# Altium schematic symbol library interface_Schlib.SchLib: 30 symbols
Pins are listed as number, name and electrical type; pins without a type are passive.

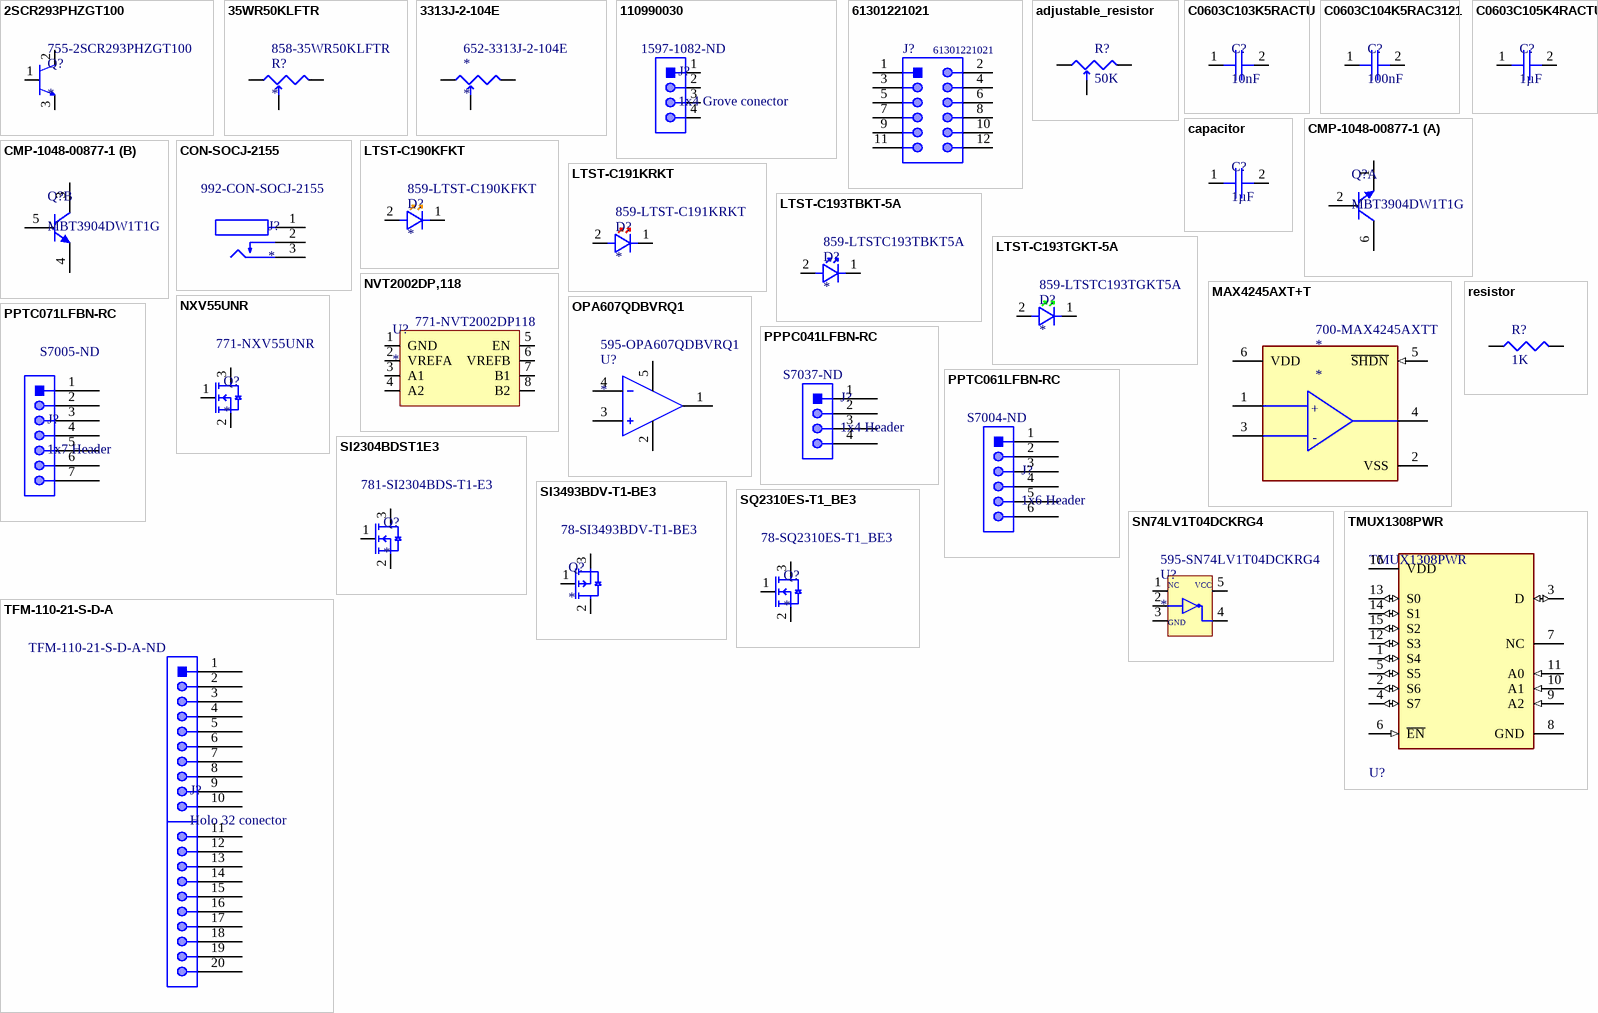
[diagram p0: symbols 2SCR293PHZGT100 to TMUX1308PWR]

## 2SCR293PHZGT100
designator Q?  Supplier Part Number 1: 755-2SCR293PHZGT100
NPN, SOT-89, 30V 1A, Middle Power Transistor for Automotive; Manufacturer: Rohm; Manufacturer Part Number: 2SCR293PHZGT100; Supplier 1: Mouser; RoHS: No; Category: Uncategorized; Stock 1: 3866; Pricing 1: 1=0,68000, 10=0,59500, 50=0,59500, 100=0,45600, 1000=0,28800, 10000=0,23800 (USD)
pins: 1, 2, 3

## 35WR50KLFTR
designator R?  Supplier Part Number 1: 858-35WR50KLFTR
35W Series 3 mm Open Frame 50 kOhm ±25 % Single-Turn Trimming Potentiometer; Manufacturer: TT BI; Manufacturer Part Number: 35WR50KLFTR; Tolerance: 25%; Power Rating: 100mW; Resistance: 50kR; Voltage Rating: 50V; Number of Turns: 1; Insulation Resistance: 100MR; Temperature Coefficient: 250ppm/°C; Supplier 1: Mouser; RoHS: Yes; Category: Variable Resistors and Potentiometers; Stock 1: 1799; Pricing 1: 1=0,46000, 10=0,42200, 50=0,42200, 100=0,33800, 1000=0,26000, 10000=0,20200 (USD); Min Operating Temperature: -40°C; Max Operating Temperature: 125°C; Packaging: Tape and Reel; Package Quantity: 2000; Resistor Type: Cermet; Termination: SMD/SMT; Voltage Rating (DC): 50V; Type: Potentiometer; Width: 1.55mm; REACH SVHC: No SVHC; Lead Free: Lead Free; RoHS Compliant: Yes; ComponentLink1URL: https://datasheet.ciiva.com/8020/4701-8020823.pdf?src-supplier=Element14; ComponentLink1Description: https://datasheet.ciiva.com/8020/4701-8020823.pdf?src-supplier=Element14; ComponentLink2URL: https://datasheet.ciiva.com/7634/4701-7634925.pdf?src-supplier=Element14; ComponentLink2Description: https://datasheet.ciiva.com/7634/4701-7634925.pdf?src-supplier=Element14; ComponentLink3URL: https://datasheet.ciiva.com/12374/35-2231-12374697.pdf?src-supplier=Mouser; ComponentLink3Description: https://datasheet.ciiva.com/12374/35-2231-12374697.pdf?src-supplier=Mouser
footprint FP-35WR50KLFTR
pins: 1, 2, 3

## 3313J-2-104E
designator *  Supplier Part Number 1: 652-3313J-2-104E
Res Cermet Trimmer 100K Ohm 20% 1/8W 1(Elec)/1(Mech)Turn 1.93mm (3.2 X 3.5 X 2.2mm) J-Hook SMD Embossed T/R; Manufacturer: Bourns; Manufacturer Part Number: 3313J-2-104E; Resistance: 100kR; Power Rating: 100mW; Max Power Dissipation: 125mW; Temperature Coefficient: 100ppm/°C; Supplier 1: Mouser; RoHS: Yes; Category: Variable Resistors and Potentiometers; Stock 1: 164; Pricing 1: 1=1,83000, 10=1,62000, 50=1,62000, 100=1,34000, 1000=0,96100, 10000=0,96100 (USD); Mount: Surface Mount; Min Operating Temperature: -55°C; Max Operating Temperature: 125°C; Resistor Type: Cermet; Packaging: Tape and Reel; Package Quantity: 1000; Tolerance: 20%; Termination: SMD/SMT; Series: Trimpot® 3313 - Sealed; Technology: CERMET; Length: 3.2mm; Height: 0.087inch; Depth: 3.5mm; Military Standard: Not; RoHS Compliant: Yes; ComponentLink1URL: https://datasheet.ciiva.com/8700/3313-8700487.pdf?src-supplier=Avnet; ComponentLink1Description: https://datasheet.ciiva.com/8700/3313-8700487.pdf?src-supplier=Avnet; ComponentLink2URL: https://datasheet.ciiva.com/2161/3313-2161114.pdf?src-supplier=Digi-Key; ComponentLink2Description: https://datasheet.ciiva.com/2161/3313-2161114.pdf?src-supplier=Digi-Key
footprint FP-3313J-2-104E
pins: 1, 2, 3

## 110990030
designator J?, comment 1x4 Grove conector  Supplier Part Number 1: 1597-1082-ND
Grove - Universal 4 pin connector [Seeed Studio] 110990030 Grove - Universal 4 pin connector; Supplier 1: Digi-Key; Manufacturer: Seeed Studio; Manufacturer Part Number: 110990030; RoHS: No; Category: Connectors; Stock 1: 3588; Pricing 1: 1=1,70000 (USD); ComponentLink1URL: http://www.mouser.com/ds/2/744/Seeed_316010005-786598.pdf?src-supplier=Mouser; ComponentLink1Description: http://www.mouser.com/ds/2/744/Seeed_316010005-786598.pdf?src-supplier=Mouser; ComponentLink2URL: https://statics3.seeedstudio.com/images/opl/datasheet/3470130P1.pdf?src-supplier=Digi-Key; ComponentLink2Description: https://statics3.seeedstudio.com/images/opl/datasheet/3470130P1.pdf?src-supplier=Digi-Key
footprint FP-110990030
pins: 1, 2, 3, 4

## 61301221021
designator J?
THT Angled Pin Header WR-PHD, Pitch 2.54 mm, Dual Row, 12 pins; Manufacturer: Wurth Elektronik; Pitch: 2.54mm; Gender: Male; Pin Number: 12; Working Voltage: 250VAC; Withstanding Voltage: 500VAC; Contact Resistance: 20mOhm; Rated Current: 3A; Datasheet URL: https://katalog.we-online.de/em/datasheet/6130xx21021.pdf; Orientation: Angled; Package Reference: 61301221021; Operating Temperature: -40to105degC; Part Number: 61301221021; Mounting Technology: THT; Row Number: Dual; Publisher: WurthElektronik; Packaging: Bag; Manufacturer URL: http://www.we-online.de
footprint 61301221021 (Pin Header, pitch 2.54 mm, THT, Angled, dual row, 12p)
pins: 1, 2, 3, 4, 5, 6, 7, 8, 9, 10, 11, 12

## adjustable_resistor
designator R?, comment 50K
pins: 1, 2, 2

## C0603C103K5RACTU
designator C?, comment 10nF
CAP CER 10000PF 50V X7R 0603; Manufacturer: KEMET; Manufacturer Part Number: C0603C103K5RACTU; Dielectric Material: Ceramic; Tolerance: 10%; Dissipation Factor: 2.5%; Supplier 1: Mouser; RoHS: Yes; Category: Ceramic Capacitors; Stock 1: 1844699; Pricing 1: 1=0,16000, 10=0,07400, 50=0,07400, 100=0,03300, 500=0,02400, 1000=0,01900, 2000=0,01700, 4000=0,01500, 8000=0,01300, 10000=0,01300 (USD); Mount: Surface Mount,PCB; Case/Package: 0603; Number of Pins: 2; Case Code (Metric): 1608; Case Code (Imperial): 0603; Contact Plating: Tin,Matte; Min Operating Temperature: -55°C; Max Operating Temperature: 125°C; Capacitance: 10nF; Dielectric: X7R; Voltage Rating: 50V; Voltage Rating (DC): 50V; Packaging: Tape and Reel; Package Quantity: 4000; Termination: SMD/SMT; Voltage: 50V; Series: C0603C; Construction: Flat; Length: 1.6mm; Width: 0.8mm; Height: 0.8mm; Thickness: 0.034inch; Lead Pitch: 0.7mm; Depth: 0.8mm; Radiation Hardening: No; REACH SVHC: No SVHC; RoHS Compliant: Yes; ComponentLink1URL: https://datasheet.ciiva.com/7823/1732718-7823585.pdf?src-supplier=Element14; ComponentLink1Description: https://datasheet.ciiva.com/7823/1732718-7823585.pdf?src-supplier=Element14; ComponentLink2URL: https://datasheet.ciiva.com/5904/kem-c1002-x7r-smd-5904645.pdf?src-supplier=Farnell; ComponentLink2Description: https://datasheet.ciiva.com/5904/kem-c1002-x7r-smd-5904645.pdf?src-supplier=Farnell; ComponentLink3URL: https://datasheet.ciiva.com/7823/kem-c1002-x7r-smd-7823976.pdf?src-supplier=Element14; ComponentLink3Description: https://datasheet.ciiva.com/7823/kem-c1002-x7r-smd-7823976.pdf?src-supplier=Element14; ComponentLink4URL: https://datasheet.ciiva.com/7823/1918693-7823978.pdf?src-supplier=Element14; ComponentLink4Description: https://datasheet.ciiva.com/7823/1918693-7823978.pdf?src-supplier=Element14; ComponentLink5URL: https://datasheet.ciiva.com/28645/1851736-28645598.pdf?src-supplier=Element14; ComponentLink5Description: https://datasheet.ciiva.com/28645/1851736-28645598.pdf?src-supplier=Element14; ComponentLink6URL: https://datasheet.ciiva.com/7823/kem-c1002-x7r-smd-7823977.pdf?src-supplier=Element14; ComponentLink6Description: https://datasheet.ciiva.com/7823/kem-c1002-x7r-smd-7823977.pdf?src-supplier=Element14; ComponentLink7URL: https://datasheet.ciiva.com/14585/70095383-14585450.pdf?src-supplier=Allied+Electronics; ComponentLink7Description: https://datasheet.ciiva.com/14585/70095383-14585450.pdf?src-supplier=Allied+Electronics; ComponentLink8URL: https://datasheet.ciiva.com/5416/kem-c1002-x7r-smd-5416028.pdf?src-supplier=Mouser; ComponentLink8Description: https://datasheet.ciiva.com/5416/kem-c1002-x7r-smd-5416028.pdf?src-supplier=Mouser; ComponentLink9URL: https://datasheet.ciiva.com/39122/kem-c1002-x7r-smd-39122903.pdf?src-supplier=Onlinecomponents.com; ComponentLink9Description: https://datasheet.ciiva.com/39122/kem-c1002-x7r-smd-39122903.pdf?src-supplier=Onlinecomponents.com; ComponentLink10URL: https://datasheet.ciiva.com/18192/getdatasheetpartid-308803-18192662.pdf?src-supplier=Verical; ComponentLink10Description: https://datasheet.ciiva.com/18192/getdatasheetpartid-308803-18192662.pdf?src-supplier=Verical; ComponentLink11URL: https://datasheet.ciiva.com/18101/getdatasheetpartid-58468-18101898.pdf?src-supplier=Verical; ComponentLink11Description: https://datasheet.ciiva.com/18101/getdatasheetpartid-58468-18101898.pdf?src-supplier=Verical
footprint FP-C0603C-CF-IPC_A
pins: 1, 2

## C0603C104K5RAC3121
designator C?, comment 100nF
Cap Ceramic 0.1uF 50V X7R 10% Pad SMD 0603 125°C T/R; Manufacturer: KEMET; Manufacturer Part Number: C0603C104K5RAC3121; Supplier 1: Mouser; RoHS: Yes; Category: Ceramic Capacitors; Stock 1: 3306727; Pricing 1: 1=0,13000, 10=0,09200, 50=0,09200, 100=0,04300, 1000=0,02500, 10000=0,01900 (USD); Case/Package: 0603; RoHS Compliant: Yes
footprint FP-C0603C104K5RAC3121-IPC_A
pins: 1, 2

## C0603C105K4RACTU
designator C?, comment 1µF
Cap Ceramic 1uF 16V X7R 10% SMD 0603 125°C Paper T/R; Manufacturer: KEMET; Manufacturer Part Number: C0603C105K4RACTU; Dissipation Factor: 3.5%; Supplier 1: Mouser; RoHS: Yes; Category: Ceramic Capacitors; Stock 1: 3280807; Pricing 1: 1=0,17000, 10=0,08000, 50=0,08000, 100=0,03600, 500=0,02600, 1000=0,02000, 2000=0,01900, 4000=0,01600, 8000=0,01400, 10000=0,01400 (USD); Mount: Surface Mount,PCB; Case/Package: 0603; Number of Pins: 2; Case Code (Metric): 1608; Case Code (Imperial): 0603; Contact Plating: Tin,Matte; Dielectric Material: Ceramic; Min Operating Temperature: -55°C; Max Operating Temperature: 125°C; Package Quantity: 4000; Capacitance: 1uF; Voltage Rating: 16V; Tolerance: 10%; Packaging: Tape and Reel; Voltage Rating (DC): 16V; Dielectric: X7R; Termination: SMD/SMT; Voltage: 16V; Series: C0603C; Construction: Flat; Length: 1.6mm; Width: 0.031inch; Height: 0.8mm; Thickness: 0.034inch; Depth: 0.8mm; Radiation Hardening: No; REACH SVHC: No SVHC; RoHS Compliant: Yes; ComponentLink1URL: https://datasheet.ciiva.com/7823/kem-c1002-x7r-smd-7823997.pdf?src-supplier=Element14; ComponentLink1Description: https://datasheet.ciiva.com/7823/kem-c1002-x7r-smd-7823997.pdf?src-supplier=Element14; ComponentLink2URL: https://datasheet.ciiva.com/22749/kem-c1002-x7r-smd-22749721.pdf?src-supplier=Element14; ComponentLink2Description: https://datasheet.ciiva.com/22749/kem-c1002-x7r-smd-22749721.pdf?src-supplier=Element14; ComponentLink3URL: https://datasheet.ciiva.com/5419/kem-c1002-x7r-smd-5419750.pdf?src-supplier=Mouser; ComponentLink3Description: https://datasheet.ciiva.com/5419/kem-c1002-x7r-smd-5419750.pdf?src-supplier=Mouser; ComponentLink4URL: https://datasheet.ciiva.com/18192/getdatasheetpartid-385479-18192732.pdf?src-supplier=Verical; ComponentLink4Description: https://datasheet.ciiva.com/18192/getdatasheetpartid-385479-18192732.pdf?src-supplier=Verical
footprint CAPC1608X90X35NL15T15 (Chip Capacitor, 2-Leads, Body 1.60x0.81mm, IPC Medium Density)
pins: 1, 2

## capacitor
designator C?, comment 1µF
pins: 1, 2

## CMP-1048-00877-1
designator Q?, comment MBT3904DW1T1G
Dual General Purpose Transistors, 6-Pin SOT-363, Pb-Free, Tape and Reel; Manufacturer: On Semiconductor; Polarity: Dual NPN; fT Min (MHz): 300; IC Continuous (A): 0.2; DatasheetVersion: Rev. 9; ComponentLink2Description: Datasheet; Mounting Technology: Surface Mount; PackageReference: SOT-363-6-419B-02_W; RoHS: TRUE; ComponentLink1Description: Manufacturer URL; ComponentLink2URL: http://www.onsemi.com/pub_link/Collateral/MBT3904DW1T1-D.PDF; PackageVersion: Rev. W, 01/2006; Packing: Tape and Reel; PartNumber: MBT3904DW1T1G; ComponentLink1URL: http://www.onsemi.com/; ComponentLink3URL: http://www.onsemi.com/pub_link/Collateral/NTJD4001N-D.PDF; ComponentLink3Description: Package Specification; PackageDescription: 6-Pin Small Outline Transistor, Body 2 x 1.25 mm, Pitch 0.65 mm
footprint ONSC-SOT-363-6-419B-02_W_V (SOT23, 6-Leads, Body 2x1.25mm, Pitch 0.65mm)
part A pins: 1 E, 2 B, 6 C
part B pins: 3 C, 4 E, 5 B

## CON-SOCJ-2155
designator J?  Supplier Part Number 1: 992-CON-SOCJ-2155
DC Power Connectors Power Jack/Connector 2.1mm x 5.5mm; Manufacturer: Gravitech; Manufacturer Part Number: CON-SOCJ-2155; Supplier 1: Mouser; RoHS: Yes; Category: Uncategorized; Stock 1: 14426; Pricing 1: 1=1,00000, 10=1,00000, 50=1,00000, 100=1,00000, 1000=1,00000, 10000=1,00000 (USD); Color: Black; Connector Type: Power; Contact Gender: Female; ComponentLink1URL: http://www.gravitech.us/poja2x51.html?src-supplier=Mouser; ComponentLink1Description: http://www.gravitech.us/poja2x51.html?src-supplier=Mouser
footprint GRAVITECH_CON-SOCJ-2155
pins: 1, 2, 3

## LTST-C190KFKT
designator D?  Supplier Part Number 1: 859-LTST-C190KFKT
0603(H=0.9mm) 橙色 λD=605nm VR=5V VF=2.0V~2.4V IF=20mA PD=75mW; Manufacturer: Vishay Lite-On; Manufacturer Part Number: LTST-C190KFKT; Color: Orange; Lens Color: Colorless; Luminous Intensity: 90mcd; Viewing Angle: 130°; Forward Current: 30mA; Forward Voltage: 2V; Lens Style: Diffused,Colorless,Clear,Rectangular; Dominant Wavelength: 605nm; Test Current: 20mA; Lens Transparency: Clear; Number of Elements: 1; Power Dissipation: 75mW; Wavelength: 611nm; Reverse Voltage: 5V; Supplier 1: Mouser; RoHS: Yes; Category: LEDs; Stock 1: 88067; Pricing 1: 1=0,22000, 10=0,12300, 50=0,12300, 100=0,05700, 500=0,05300, 1000=0,04200, 4000=0,04000, 8000=0,03100, 10000=0,03100, 24000=0,02800, 48000=0,02500 (USD); Mount: Surface Mount; Case/Package: 0603; Number of Pins: 2; Case Code (Metric): 1608; Case Code (Imperial): 0603; Min Operating Temperature: -55°C; Max Operating Temperature: 85°C; Packaging: Tape and Reel; Package Quantity: 1; Illumination Color: Orange; Number of LEDs: 1; Power Rating: 75mW; Length: 3.2mm; Width: 0.8mm; Height: 0.8mm; Depth: 1.6mm; Radiation Hardening: No; RoHS Compliant: Yes; Lead Free: Lead Free; ComponentLink1URL: https://datasheet.ciiva.com/11774/0900766b80dc02a7-11774744.pdf?src-supplier=RSComponents; ComponentLink1Description: https://datasheet.ciiva.com/11774/0900766b80dc02a7-11774744.pdf?src-supplier=RSComponents; ComponentLink2URL: https://datasheet.ciiva.com/12400/100-ltst-c190kfkt-53640-12400769.pdf?src-supplier=Mouser; ComponentLink2Description: https://datasheet.ciiva.com/12400/100-ltst-c190kfkt-53640-12400769.pdf?src-supplier=Mouser; ComponentLink3URL: https://datasheet.ciiva.com/16396/lite-on20ltst-c190kfkt-16396246.pdf?src-supplier=Future+Electronics; ComponentLink3Description: https://datasheet.ciiva.com/16396/lite-on20ltst-c190kfkt-16396246.pdf?src-supplier=Future+Electronics; ComponentLink4URL: https://datasheet.ciiva.com/15201/getdatasheetpartid-309341-15201388.pdf?src-supplier=Verical; ComponentLink4Description: https://datasheet.ciiva.com/15201/getdatasheetpartid-309341-15201388.pdf?src-supplier=Verical; ComponentLink5URL: https://datasheet.ciiva.com/2109/s-110-ltst-c190kfkt-2109977.pdf?src-supplier=Digi-Key; ComponentLink5Description: https://datasheet.ciiva.com/2109/s-110-ltst-c190kfkt-2109977.pdf?src-supplier=Digi-Key; ComponentLink6URL: https://datasheet.ciiva.com/2109/s-110-ltst-c190kfkt-2109976.pdf?src-supplier=Digi-Key; ComponentLink6Description: https://datasheet.ciiva.com/2109/s-110-ltst-c190kfkt-2109976.pdf?src-supplier=Digi-Key; ComponentLink7URL: https://datasheet.ciiva.com/2109/s-110-ltst-c190kfkt-2109978.pdf?src-supplier=Digi-Key; ComponentLink7Description: https://datasheet.ciiva.com/2109/s-110-ltst-c190kfkt-2109978.pdf?src-supplier=Digi-Key
footprint FP-LTST-C190KFKT-MFG
pins: 1, 2

## LTST-C191KRKT
designator D?  Supplier Part Number 1: 859-LTST-C191KRKT
0603(H=0.65mm) 红色 λD=631nm VR=5V VF=2.0V~2.4V IF=20mA PD=75mW; Manufacturer: Vishay Lite-On; Manufacturer Part Number: LTST-C191KRKT; Color: Red; Lens Color: Colorless; Power Rating: 75mW; Luminous Intensity: 54mcd; Viewing Angle: 130°; Forward Voltage: 2V; Lens Style: Clear,Diffused,Colorless,Rectangular; Forward Current: 30mA; Dominant Wavelength: 631nm; Test Current: 20mA; Lens Transparency: Clear; Number of Elements: 1; Wavelength: 639nm; Reverse Voltage: 5V; Supplier 1: Mouser; RoHS: Yes; Category: LEDs; Stock 1: 594160; Pricing 1: 1=0,26000, 10=0,14200, 50=0,14200, 100=0,06600, 500=0,06100, 1000=0,04800, 5000=0,04600, 10000=0,03600, 25000=0,03200, 50000=0,02900 (USD); Mount: Surface Mount; Case/Package: 0603; Number of Pins: 2; Case Code (Metric): 1608; Case Code (Imperial): 0603; Min Operating Temperature: -55°C; Max Operating Temperature: 85°C; Packaging: Tape and Reel; Package Quantity: 1; Illumination Color: Red; Power Dissipation: 75mW; Number of LEDs: 1; Voltage: 2V; Length: 1.6mm; Width: 0.8mm; Height: 0.55mm; Depth: 0.8mm; Radiation Hardening: No; Lead Free: Lead Free; RoHS Compliant: Yes; ComponentLink1URL: https://datasheet.ciiva.com/11773/0900766b80dc02b2-11773601.pdf?src-supplier=RSComponents; ComponentLink1Description: https://datasheet.ciiva.com/11773/0900766b80dc02b2-11773601.pdf?src-supplier=RSComponents; ComponentLink2URL: https://datasheet.ciiva.com/12400/lite-on-ltst-c191krkt-190135-12400910.pdf?src-supplier=Mouser; ComponentLink2Description: https://datasheet.ciiva.com/12400/lite-on-ltst-c191krkt-190135-12400910.pdf?src-supplier=Mouser; ComponentLink3URL: https://datasheet.ciiva.com/16212/ltst-c191krkt-16212419.pdf?src-supplier=Future+Electronics; ComponentLink3Description: https://datasheet.ciiva.com/16212/ltst-c191krkt-16212419.pdf?src-supplier=Future+Electronics; ComponentLink4URL: https://datasheet.ciiva.com/15117/getdatasheetpartid-141922-15117737.pdf?src-supplier=Verical; ComponentLink4Description: https://datasheet.ciiva.com/15117/getdatasheetpartid-141922-15117737.pdf?src-supplier=Verical; ComponentLink5URL: https://datasheet.ciiva.com/2109/s-110-ltst-c191krkt-2109971.pdf?src-supplier=Digi-Key; ComponentLink5Description: https://datasheet.ciiva.com/2109/s-110-ltst-c191krkt-2109971.pdf?src-supplier=Digi-Key; ComponentLink6URL: https://datasheet.ciiva.com/2109/s-110-ltst-c191krkt-2109970.pdf?src-supplier=Digi-Key; ComponentLink6Description: https://datasheet.ciiva.com/2109/s-110-ltst-c191krkt-2109970.pdf?src-supplier=Digi-Key; ComponentLink7URL: https://datasheet.ciiva.com/2109/s-110-ltst-c191krkt-2109972.pdf?src-supplier=Digi-Key; ComponentLink7Description: https://datasheet.ciiva.com/2109/s-110-ltst-c191krkt-2109972.pdf?src-supplier=Digi-Key
footprint FP-LTST-C191KRKT
pins: 1, 2

## LTST-C193TBKT-5A
designator D?  Supplier Part Number 1: 859-LTSTC193TBKT5A
0603(H=0.35mm) 蓝色 λD=465nm~475nm VR=5V VF=2.65V~3.05V IF=5mA PD=76mW; Manufacturer: Vishay Lite-On; Manufacturer Part Number: LTST-C193TBKT-5A; Color: Blue; Lens Color: Colorless; Forward Current: 20mA; Forward Voltage: 2.8V; Luminous Intensity: 15mcd; Viewing Angle: 130°; Lens Style: Diffused,Colorless,Rectangular,Clear; Dominant Wavelength: 475nm; Test Current: 5mA; Lens Transparency: Clear; Number of Elements: 1; Power Dissipation: 76mW; Reverse Voltage: 5V; Supplier 1: Mouser; RoHS: Yes; Category: LEDs; Stock 1: 327691; Pricing 1: 1=0,30000, 10=0,23400, 50=0,23400, 100=0,10600, 500=0,09500, 1000=0,07800, 5000=0,06700, 10000=0,05400, 25000=0,05000, 50000=0,04500 (USD); Mount: Surface Mount; Case/Package: 0603; Number of Pins: 2; Case Code (Metric): 1608; Case Code (Imperial): 0603; Min Operating Temperature: -20°C; Max Operating Temperature: 80°C; Illumination Color: Blue; Packaging: Tape and Reel; Package Quantity: 1; Number of LEDs: 1; Length: 1.6mm; Width: 0.8mm; Height: 0.35mm; Depth: 0.8mm; Radiation Hardening: No; RoHS Compliant: Yes; Lead Free: Lead Free; ComponentLink1URL: https://datasheet.ciiva.com/2111/ltst-c193tbkt-5a-2111219.pdf?src-supplier=Digi-Key; ComponentLink1Description: https://datasheet.ciiva.com/2111/ltst-c193tbkt-5a-2111219.pdf?src-supplier=Digi-Key; ComponentLink2URL: https://datasheet.ciiva.com/11773/0900766b80dc0554-11773880.pdf?src-supplier=RSComponents; ComponentLink2Description: https://datasheet.ciiva.com/11773/0900766b80dc0554-11773880.pdf?src-supplier=RSComponents; ComponentLink3URL: https://datasheet.ciiva.com/4688/lite-on-ltst-c193tbkt-5a-187386-4688832.pdf?src-supplier=Mouser; ComponentLink3Description: https://datasheet.ciiva.com/4688/lite-on-ltst-c193tbkt-5a-187386-4688832.pdf?src-supplier=Mouser; ComponentLink4URL: https://datasheet.ciiva.com/16210/ltst-c193tbkt-5a-16210824.pdf?src-supplier=Future+Electronics; ComponentLink4Description: https://datasheet.ciiva.com/16210/ltst-c193tbkt-5a-16210824.pdf?src-supplier=Future+Electronics; ComponentLink5URL: https://datasheet.ciiva.com/15201/getdatasheetpartid-293056-15201395.pdf?src-supplier=Verical; ComponentLink5Description: https://datasheet.ciiva.com/15201/getdatasheetpartid-293056-15201395.pdf?src-supplier=Verical; ComponentLink6URL: https://datasheet.ciiva.com/2111/p-100-ltst-c193tbkt-5a-2111220.pdf?src-supplier=Digi-Key; ComponentLink6Description: https://datasheet.ciiva.com/2111/p-100-ltst-c193tbkt-5a-2111220.pdf?src-supplier=Digi-Key; ComponentLink7URL: https://datasheet.ciiva.com/2111/p-100-ltst-c193tbkt-5a-2111221.pdf?src-supplier=Digi-Key; ComponentLink7Description: https://datasheet.ciiva.com/2111/p-100-ltst-c193tbkt-5a-2111221.pdf?src-supplier=Digi-Key
footprint FP-LTST-C193TBKT-5A-MFG
pins: 1, 2

## LTST-C193TGKT-5A
designator D?  Supplier Part Number 1: 859-LTSTC193TGKT5A
0603(H=0.35mm) 绿色 λD=520nm~535nm VR=5V VF=2.5V~3.1V IF=5mA PD=76mW; Manufacturer: Vishay Lite-On; Manufacturer Part Number: LTST-C193TGKT-5A; Color: Green; Lens Color: Colorless; Forward Current: 5mA; Forward Voltage: 3.1V; Luminous Intensity: 280mcd; Viewing Angle: 130°; Lens Style: Diffused,Colorless,Rectangular; Lens Transparency: Clear; Dominant Wavelength: 535nm; Number of Elements: 1; Power Dissipation: 76mW; Reverse Voltage: 5V; Supplier 1: Mouser; RoHS: Yes; Category: LEDs; Stock 1: 78292; Pricing 1: 1=0,44000, 10=0,27500, 50=0,27500, 100=0,15800, 1000=0,12400, 5000=0,11300, 10000=0,09600, 25000=0,09200, 50000=0,08900 (USD); Mount: Surface Mount; Case/Package: 0603; Number of Pins: 2; Case Code (Metric): 1608; Case Code (Imperial): 0603; Min Operating Temperature: -20°C; Max Operating Temperature: 80°C; Illumination Color: Green; Packaging: Tape and Reel; Package Quantity: 3000; Test Current: 5mA; Number of LEDs: 1; Series: -; Length: 1.6mm; Width: 0.8mm; Height: 0.35mm; Depth: 0.8mm; Radiation Hardening: No; Lead Free: Lead Free; RoHS Compliant: Yes; ComponentLink1URL: https://datasheet.ciiva.com/2111/ltst-c193tgkt-5a-2111818.pdf?src-supplier=Digi-Key; ComponentLink1Description: https://datasheet.ciiva.com/2111/ltst-c193tgkt-5a-2111818.pdf?src-supplier=Digi-Key; ComponentLink2URL: https://datasheet.ciiva.com/11775/0900766b80dc0555-11775617.pdf?src-supplier=RSComponents; ComponentLink2Description: https://datasheet.ciiva.com/11775/0900766b80dc0555-11775617.pdf?src-supplier=RSComponents; ComponentLink3URL: https://datasheet.ciiva.com/4689/lite-on-ltst-c193tgkt-5a-187259-4689610.pdf?src-supplier=Mouser; ComponentLink3Description: https://datasheet.ciiva.com/4689/lite-on-ltst-c193tgkt-5a-187259-4689610.pdf?src-supplier=Mouser; ComponentLink4URL: https://datasheet.ciiva.com/2111/p-100-ltst-c193tgkt-5a-2111819.pdf?src-supplier=Digi-Key; ComponentLink4Description: https://datasheet.ciiva.com/2111/p-100-ltst-c193tgkt-5a-2111819.pdf?src-supplier=Digi-Key; ComponentLink5URL: https://datasheet.ciiva.com/2111/p-100-ltst-c193tgkt-5a-2111820.pdf?src-supplier=Digi-Key; ComponentLink5Description: https://datasheet.ciiva.com/2111/p-100-ltst-c193tgkt-5a-2111820.pdf?src-supplier=Digi-Key
footprint FP-LTST-C193TGKT-5A
pins: 1, 2

## MAX4245AXT+T
designator *  Supplier Part Number 1: 700-MAX4245AXTT
Ultra-Small, Rail-to-Rail I/O with Disable, Single/Dual-Supply, Low-Power Op Amp; Manufacturer: Maxim; Manufacturer Part Number: MAX4245AXT+T; Min Supply Voltage: 2.5V; Max Supply Voltage: 5.5V; Min Dual Supply Voltage: 1.25V; Max Dual Supply Voltage: 2.75V; Voltage Gain: 120dB; Common Mode Rejection Ratio: 65dB; Gain Bandwidth Product: 1MHz; Slew Rate: 0.4V/µs; Input Bias Current: 10nA; Input Offset Voltage (Vos): 400uV; Operating Supply Current: 375uA; Output Current per Channel: 30mA; Amplifier Type: GENERAL PURPOSE; Nominal Supply Current: 320uA; Number of Channels: 1; Supplier 1: Mouser; RoHS: Yes; Category: Amplifiers - Op Amps, Buffer, Instrumentation; Stock 1: 2500; Pricing 1: 1=1,75000, 10=1,57000, 25=1,47000, 50=1,47000, 100=1,24000, 250=1,16000, 500=1,09000, 1000=1,07000, 2500=1,00000, 5000=0,98500, 10000=0,98500 (USD); Mount: Surface Mount; Case/Package: SC; Number of Pins: 6; Min Operating Temperature: -40°C; Max Operating Temperature: 125°C; Packaging: Tape and Reel; Output Current: 30mA; Operating Supply Voltage: 2.75V; Package Quantity: 1; Number of Circuits: 1; Series: -; Supply Current: 320uA; Length: 2.15mm; Width: 1.35mm; Height: 1mm; Radiation Hardening: No; RoHS Compliant: Yes; ComponentLink1URL: https://datasheet.ciiva.com/1819/max4245-max4247-1819317.pdf?src-supplier=Digi-Key; ComponentLink1Description: https://datasheet.ciiva.com/1819/max4245-max4247-1819317.pdf?src-supplier=Digi-Key; ComponentLink2URL: https://datasheet.ciiva.com/1819/max4245-max4247-1819319.pdf?src-supplier=Digi-Key; ComponentLink2Description: https://datasheet.ciiva.com/1819/max4245-max4247-1819319.pdf?src-supplier=Digi-Key; ComponentLink3URL: https://datasheet.ciiva.com/1819/max4245-max4247-1819318.pdf?src-supplier=Digi-Key; ComponentLink3Description: https://datasheet.ciiva.com/1819/max4245-max4247-1819318.pdf?src-supplier=Digi-Key; ComponentLink4URL: https://datasheet.ciiva.com/14347/max4245-max4247-14347439.pdf?src-supplier=Avnet; ComponentLink4Description: https://datasheet.ciiva.com/14347/max4245-max4247-14347439.pdf?src-supplier=Avnet
footprint FP-X6SN-1-IPC_A
pins: 1 IN+ (hiz), 2 VSS (power), 3 IN- (hiz), 4 OUT, 5 ~{SHDN} (in), 6 VDD (power)
text: +

## NVT2002DP,118
designator U?  Supplier Part Number 1: 771-NVT2002DP118
NVT2002 Series Dual Channel 5.5 V Voltage Surface Mount translator - TSSOP-8; Manufacturer: NXP Semiconductors; Manufacturer Part Number: NVT2002DP,118; Max Supply Voltage: 5.5V; Min Supply Voltage: 0V; Number of Channels: 2; Propagation Delay: 1.5ns; Number of Inputs: 4; Operating Frequency-Max: 33MHz; Supplier 1: Mouser; RoHS: Yes; Category: Interface ICs; Stock 1: 807; Pricing 1: 1=0,96000, 10=0,84000, 50=0,84000, 100=0,64400, 1000=0,48000, 10000=0,47900 (USD); Mount: Surface Mount; Case/Package: TSSOP; Number of Pins: 8; Contact Plating: Gold; Min Operating Temperature: -40°C; Max Operating Temperature: 85°C; Logic Function: Translator; Packaging: Tape and Reel; Package Quantity: 1; Number of Bits: 2; Output Type: Voltage; Series: -; Radiation Hardening: No; REACH SVHC: No SVHC; Lead Free: Lead Free; RoHS Compliant: Yes; ComponentLink1URL: https://datasheet.ciiva.com/15096/getdatasheetpartid-296429-15096263.pdf?src-supplier=Verical; ComponentLink1Description: https://datasheet.ciiva.com/15096/getdatasheetpartid-296429-15096263.pdf?src-supplier=Verical; ComponentLink2URL: https://datasheet.ciiva.com/1899/nvt2001-nvt2002-1899002.pdf?src-supplier=Digi-Key; ComponentLink2Description: https://datasheet.ciiva.com/1899/nvt2001-nvt2002-1899002.pdf?src-supplier=Digi-Key; ComponentLink3URL: https://datasheet.ciiva.com/1899/nvt2001-nvt2002-1899004.pdf?src-supplier=Digi-Key; ComponentLink3Description: https://datasheet.ciiva.com/1899/nvt2001-nvt2002-1899004.pdf?src-supplier=Digi-Key; ComponentLink4URL: https://datasheet.ciiva.com/8244/nvt2001-nvt2002-8244200.pdf?src-supplier=Avnet; ComponentLink4Description: https://datasheet.ciiva.com/8244/nvt2001-nvt2002-8244200.pdf?src-supplier=Avnet; ComponentLink5URL: https://datasheet.ciiva.com/1899/nvt2001-nvt2002-1899003.pdf?src-supplier=Digi-Key; ComponentLink5Description: https://datasheet.ciiva.com/1899/nvt2001-nvt2002-1899003.pdf?src-supplier=Digi-Key; ComponentLink6URL: https://datasheet.ciiva.com/16213/nvt2001-nvt2002-16213084.pdf?src-supplier=Future+Electronics; ComponentLink6Description: https://datasheet.ciiva.com/16213/nvt2001-nvt2002-16213084.pdf?src-supplier=Future+Electronics
pins: 1 GND, 2 VREFA "low-voltage side", 3 A1, 4 A2, 5 EN "high-voltage side", 6 VREFB "high-voltage side", 7 B1, 8 B2

## NXV55UNR
designator Q?  Supplier Part Number 1: 771-NXV55UNR
Transistor MOSFET N-Channel 30V 2.3A 3-Pin SOT-23; Manufacturer: Nexperia; Manufacturer Part Number: NXV55UNR; Supplier 1: Mouser; RoHS: No; Stock 1: 55565; Pricing 1: 1=0,45000, 10=0,34400, 50=0,34400, 100=0,19500, 1000=0,09900, 10000=0,06800 (USD)
footprint SOT95P230X110-3N
pins: 1, 2, 3

## OPA607QDBVRQ1
designator U?  Supplier Part Number 1: 595-OPA607QDBVRQ1
Automotive, 50-MHz, low-power, gain of 6-V/V stable, rail-to-rail output CMOS operational amplifier 5-SOT-23 -40 to 125; Manufacturer: Texas Instruments; Manufacturer Part Number: OPA607QDBVRQ1; Supplier 1: Mouser; RoHS: Yes; Stock 1: 4836; Pricing 1: 1=1,44000, 10=1,30000, 25=1,23000, 50=1,23000, 100=1,01000, 250=0,94200, 500=0,83200, 1000=0,65700, 3000=0,63500, 10000=0,63500 (USD)
footprint FP-DBV0005A-IPC_A
pins: 1 OUT, 2 VS- (power), 3 IN+ (hiz), 4 IN- (hiz), 5 VS+ (power)

## PPPC041LFBN-RC
designator J?, comment 1x4 Header  Supplier Part Number 1: S7037-ND
4 Positions Embase Connecteur 0,100 po (2,54mm) Trou traversant Or; Manufacturer: Sullins; Manufacturer Part Number: PPPC041LFBN-RC; Number of Positions: 4; Pitch: 0.1inch; Supplier 1: Digi-Key; RoHS: Yes; Category: Connectors; Stock 1: 100451; Pricing 1: 1=0,47000, 10=0,40700, 100=0,33530, 500=0,29160, 1000=0,24057, 5000=0,21141, 10000=0,21060 (USD); Mount: Through Hole; Color: Black; Contact Plating: Gold; Contact Material: Bronze; Housing Material: Plastic; Package Quantity: 1000; Number of Rows: 1; Packaging: Bulk; Termination: Solder; Connector Type: Header; Contact Type: Female Socket; Length: 10.7mm; Width: 2.5mm; Height: 8.5mm; Lead Free: Lead Free; RoHS Compliant: Yes; ComponentLink1URL: https://media.digikey.com/pdf/Data%20Sheets/Sullins%20PDFs/Female_Headers.100_DS.pdf?src-supplier=Digi-Key; ComponentLink1Description: https://media.digikey.com/pdf/Data%20Sheets/Sullins%20PDFs/Female_Headers.100_DS.pdf?src-supplier=Digi-Key; ComponentLink2URL: http://www.sullinscorp.com/catalogs/78_Page80-81_HEADER_.100_2.54mm_FEMALE.pdf?src-supplier=Future+Electronics; ComponentLink2Description: http://www.sullinscorp.com/catalogs/78_Page80-81_HEADER_.100_2.54mm_FEMALE.pdf?src-supplier=Future+Electronics
footprint header 1x4
pins: 1, 2, 3, 4

## PPTC061LFBN-RC
designator J?, comment 1x6 Header  Supplier Part Number 1: S7004-ND
Female, 6 C, Straight, .100"CC; 3.20mm Tail, No Mt. 100u" Tin; PBT, Phos Bronze, 105 C; Manufacturer: Sullins; Manufacturer Part Number: PPTC061LFBN-RC; Supplier 1: Digi-Key; RoHS: Yes; Category: Connectors; Stock 1: 131305; Pricing 1: 1=0,52000, 10=0,44900, 80=0,37050, 440=0,32220, 1000=0,26582, 5000=0,23360, 10000=0,23270 (USD); ComponentLink1URL: https://media.digikey.com/pdf/Data%20Sheets/Sullins%20PDFs/Female_Headers.100_DS.pdf?src-supplier=Digi-Key; ComponentLink1Description: https://media.digikey.com/pdf/Data%20Sheets/Sullins%20PDFs/Female_Headers.100_DS.pdf?src-supplier=Digi-Key; ComponentLink2URL: http://www.sullinscorp.com/catalogs/78_Page80-81_HEADER_.100_2.54mm_FEMALE.pdf?src-supplier=Future+Electronics; ComponentLink2Description: http://www.sullinscorp.com/catalogs/78_Page80-81_HEADER_.100_2.54mm_FEMALE.pdf?src-supplier=Future+Electronics
footprint header 1x6
pins: 1, 2, 3, 4, 5, 6

## PPTC071LFBN-RC
designator J?, comment 1x7 Header  Supplier Part Number 1: S7005-ND
Female, 7C, Straight, .100"CC; 3.20mm Tail, No Mt. 100u" Tin; PBT, Phos Bronze, 105 C; Manufacturer: Sullins; Manufacturer Part Number: PPTC071LFBN-RC; Number of Positions: 7; Connector Type: Header,Socket; Pitch: 0.1inch; Supplier 1: Digi-Key; RoHS: Yes; Category: Connectors; Stock 1: 23266; Pricing 1: 1=0,59000, 10=0,51500, 80=0,42438, 440=0,36900, 1000=0,30442, 5000=0,26752, 10000=0,26650 (USD); Mount: Through Hole; Contact Material: Bronze; Contact Plating: Tin; Color: Black; Housing Material: Plastic; Termination: Solder; Package Quantity: 1000; Number of Rows: 1; Packaging: Bulk; Length: 18.3mm; Width: 2.5mm; Height: 8.5mm; Lead Free: Lead Free; ComponentLink1URL: https://media.digikey.com/pdf/Data%20Sheets/Sullins%20PDFs/Female_Headers.100_DS.pdf?src-supplier=Digi-Key; ComponentLink1Description: https://media.digikey.com/pdf/Data%20Sheets/Sullins%20PDFs/Female_Headers.100_DS.pdf?src-supplier=Digi-Key; ComponentLink2URL: http://www.sullinscorp.com/catalogs/78_Page80-81_HEADER_.100_2.54mm_FEMALE.pdf?src-supplier=Future+Electronics; ComponentLink2Description: http://www.sullinscorp.com/catalogs/78_Page80-81_HEADER_.100_2.54mm_FEMALE.pdf?src-supplier=Future+Electronics
footprint header 1x7
pins: 1, 2, 3, 4, 5, 6, 7

## resistor
designator R?, comment 1K
footprint RESC2013X50X30ML20T20 (Chip Resistor, 2-Leads, Body 2.00x1.25mm, IPC Low Density)
pins: 1, 2

## SI2304BDST1E3
designator Q?  Supplier Part Number 1: 781-SI2304BDS-T1-E3
Single N-Channel 30 V 0.07 Ohms Surface Mount Power Mosfet - SOT-23; Manufacturer: Vishay; Manufacturer Part Number: SI2304BDST1E3; On-State Resistance: 70mR; Rise Time: 12.5ns; Nominal Vgs: 1.5V; Input Capacitance: 225pF; Number of Channels: 1; Max Power Dissipation: 750mW; Drain to Source Voltage (Vdss): 30V; Continuous Drain Current (ID): 2.6A; Gate to Source Voltage (Vgs): 20V; Turn-Off Delay Time: 19ns; Turn-On Delay Time: 7.5ns; Supplier 1: Mouser; RoHS: Yes; Category: MOSFETs; Stock 1: 13203; Pricing 1: 1=0,67000, 10=0,57800, 50=0,57800, 100=0,43200, 500=0,33900, 1000=0,26200, 3000=0,23800, 10000=0,23800 (USD); Mount: Surface Mount; Case/Package: SOT-23; Number of Pins: 3; Weight: 0.050717oz; Min Operating Temperature: -55°C; Max Operating Temperature: 150°C; Element Configuration: Single; Packaging: Tape and Reel; Package Quantity: 1; Rds On Max: 70mR; Number of Elements: 1; Drain to Source Breakdown Voltage: 30V; Drain to Source Resistance: 70mR; Fall Time: 12.5ns; Threshold Voltage: 1.5V; Power Dissipation: 750mW; Length: 3.04mm; Width: 1.4mm; Height: 1.02mm; Radiation Hardening: No; REACH SVHC: Unknown; Lead Free: Lead Free; ComponentLink1URL: https://datasheet.ciiva.com/16225/si2304bds-16225072.pdf?src-supplier=Future+Electronics; ComponentLink1Description: https://datasheet.ciiva.com/16225/si2304bds-16225072.pdf?src-supplier=Future+Electronics; ComponentLink2URL: https://datasheet.ciiva.com/22707/1674170-22707810.pdf?src-supplier=Element14; ComponentLink2Description: https://datasheet.ciiva.com/22707/1674170-22707810.pdf?src-supplier=Element14; ComponentLink3URL: https://datasheet.ciiva.com/4439/si2304bds-107231-4439578.pdf?src-supplier=Mouser; ComponentLink3Description: https://datasheet.ciiva.com/4439/si2304bds-107231-4439578.pdf?src-supplier=Mouser; ComponentLink4URL: https://datasheet.ciiva.com/11161/si2304bds-11161450.pdf?src-supplier=Avnet; ComponentLink4Description: https://datasheet.ciiva.com/11161/si2304bds-11161450.pdf?src-supplier=Avnet; ComponentLink5URL: https://datasheet.ciiva.com/6367/si2304bds-6367035.pdf?src-supplier=Digi-Key; ComponentLink5Description: https://datasheet.ciiva.com/6367/si2304bds-6367035.pdf?src-supplier=Digi-Key; ComponentLink6URL: https://datasheet.ciiva.com/46386/1912647-46386540.pdf?src-supplier=Element14; ComponentLink6Description: https://datasheet.ciiva.com/46386/1912647-46386540.pdf?src-supplier=Element14; ComponentLink7URL: https://datasheet.ciiva.com/6367/si2304bds-6367038.pdf?src-supplier=Digi-Key; ComponentLink7Description: https://datasheet.ciiva.com/6367/si2304bds-6367038.pdf?src-supplier=Digi-Key
footprint FP-SI2304BDST1E3
pins: 1, 2, 3

## SI3493BDV-T1-BE3
designator Q?  Supplier Part Number 1: 78-SI3493BDV-T1-BE3
Transistor MOSFET P-CH 20V 8A 6-Pin TSOP; Manufacturer: Vishay; Manufacturer Part Number: SI3493BDV-T1-BE3; Supplier 1: Mouser; Stock 1: 1029; Pricing 1: 1=0,90000, 10=0,81200, 50=0,81200, 100=0,63300, 1000=0,41300, 10000=0,38700 (USD); ComponentLink1URL: https://datasheet.octopart.com/SI3493BDV-T1-BE3-Vishay-datasheet-140480787.pdf?src-supplier=Future+Electronics; ComponentLink1Description: https://datasheet.octopart.com/SI3493BDV-T1-BE3-Vishay-datasheet-140480787.pdf?src-supplier=Future+Electronics
pins: 1, 2, 3

## SN74LV1T04DCKRG4
designator U?  Supplier Part Number 1: 595-SN74LV1T04DCKRG4
Single Power Supply INVERTER Gate logic level shifter 5-SC70; Manufacturer: Texas Instruments; Manufacturer Part Number: SN74LV1T04DCKRG4; Number of Circuits: 1; Quiescent Current: 10uA; High Level Output Current: 8mA; Propagation Delay: 7ns; Supplier 1: Mouser; RoHS: Yes; Category: Logic Gates; Stock 1: 13588; Pricing 1: 1=0,56000, 10=0,47800, 50=0,47800, 100=0,33100, 1000=0,21700, 10000=0,19700 (USD); Mount: Surface Mount; Min Operating Temperature: -40°C; Max Operating Temperature: 125°C; Logic Function: Inverter; Packaging: Cut Tape; Number of Inputs: 1; Low Level Output Current: 8mA; RoHS Compliant: Yes; ComponentLink1URL: http://www.ti.com/general/docs/suppproductinfo.tsp?distId=10&amp;gotoUrl=http%3A%2F%2Fwww.ti.com%2Flit%2Fgpn%2Fsn74lv1t04&src-supplier=Digi-Key; ComponentLink1Description: http://www.ti.com/general/docs/suppproductinfo.tsp?distId=10&amp;gotoUrl=http%3A%2F%2Fwww.ti.com%2Flit%2Fgpn%2Fsn74lv1t04&src-supplier=Digi-Key
footprint SOT65P210X110-5N
pins: 1 NC, 2, 3 GND, 4, 5 VCC

## SQ2310ES-T1_BE3
designator Q?  Supplier Part Number 1: 78-SQ2310ES-T1_BE3
Transistor MOSFET P-Channel 20V 3.9A Automotive 3-Pin SOT-23; Manufacturer: Vishay; Manufacturer Part Number: SQ2310ES-T1_BE3; Supplier 1: Mouser; RoHS: No; Stock 1: 15909; Pricing 1: 1=0,94000, 10=0,83000, 50=0,83000, 100=0,63700, 1000=0,40300, 10000=0,37700 (USD)
pins: 1, 2, 3

## TFM-110-21-S-D-A
designator J?, comment Holo 32 conector  Supplier Part Number 1: TFM-110-21-S-D-A-ND
Headers & Wire Housings High-Reliability Tiger Eye Terminal Strips, .050 Pitch; Manufacturer: Samtec; Manufacturer Part Number: TFM-110-21-S-D-A; Max Current Rating: 5A; Number of Contacts: 20; Max Voltage Rating (AC): 350V; Gender: Male; Pitch: 1.27mm; Supplier 1: Digi-Key; RoHS: Yes; Category: Connectors; Stock 1: 45; Pricing 1: 1=8,39000, 35=7,16771, 105=6,64333, 455=5,59440, 945=4,89510 (USD); Housing Color: Black; Housing Material: Polymer; Contact Plating: Gold; Contact Material: Bronze; Min Operating Temperature: -55°C; Max Operating Temperature: 125°C; Packaging: Rail/Tube; Number of Rows: 2; Termination: Solder; Orientation: Straight; Length: 15.88mm; Depth: 5.72mm; REACH SVHC: No SVHC; RoHS Compliant: Yes; ComponentLink1URL: http://www.farnell.com/datasheets/2047776.pdf?src-supplier=Farnell; ComponentLink1Description: http://www.farnell.com/datasheets/2047776.pdf?src-supplier=Farnell; ComponentLink2URL: http://components.arrow.com/part/dataview/2691576S7516801N1004?src-supplier=Arrow+Electronics; ComponentLink2Description: http://components.arrow.com/part/dataview/2691576S7516801N1004?src-supplier=Arrow+Electronics; ComponentLink3URL: http://www.samtec.com/documents/webfiles/pdf/TFM_SM.PDF?src-supplier=Avnet; ComponentLink3Description: http://www.samtec.com/documents/webfiles/pdf/TFM_SM.PDF?src-supplier=Avnet
footprint SAMTEC_TFM-110-21-S-D-A
pins: 1, 2, 3, 4, 5, 6, 7, 8, 9, 10, 11, 12, 13, 14, 15, 16, 17, 18, 19, 20

## TMUX1308PWR
designator U?
1-CHANNEL, 8:1 GENERAL-PURPOSE A
footprint FP-PW0016A-IPC_A
pins: 1 S4 (io), 2 S6 (io), 3 D (io), 4 S7 (io), 5 S5 (io), 6 ~{EN} (in), 7 NC (power), 8 GND (power), 9 A2 (in), 10 A1 (in), 11 A0 (in), 12 S3 (io), 13 S0 (io), 14 S1 (io), 15 S2 (io), 16 VDD (power)